# Altium schematic symbol library CAP CER 0.1UF 25V X7R 0603.SchLib: 1 symbol
Pins are listed as number, name and electrical type; pins without a type are passive.

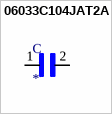
[diagram p0: symbol 06033C104JAT2A]

## 06033C104JAT2A
designator C
0.1ÂµF Â±5% 25V Ceramic Capacitor X7R 0603 _1608 Metric_; MF: AVX; MP: 06033C104JAT2A; SnapEDA_Link: https://www.snapeda.com/parts/06033C104JAT2A/AVX/view-part/605908/?ref=snap; Digi-Key_Part_Number: 478-3713-1-ND; Value: *; Package: 1608 AVX; Digi-Key_Purchase_URL: https://www.digikey.com/product-detail/en/avx-corporation/06033C104JAT2A/478-3713-1-ND/1116411?utm_source=snapeda&utm_medium=aggregator&utm_campaign=symbol
footprint CAPC1608X90N
pins: 1, 2